# EAGLE library part SKRHAXE010 (library pimoroni)
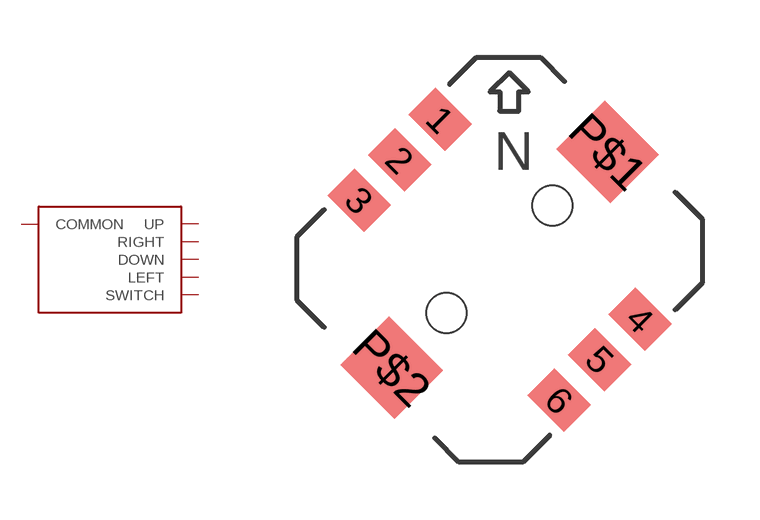
[diagram p43: symbol with the pads of SKRHAXE010; footprint SKRHAXE010]

Designator prefix -

## SKRHAXE010  [SKRHAXE010]
1  UP
2  SWITCH
3  LEFT
4  RIGHT
5  COMMON
6  DOWN

## Footprint SKRHAXE010 (pad centres in mm)
smd 1.35 x 1 rotated 315: 1 -1.306,3.781; 2 -2.366,2.72; 3 -3.427,1.659; 4 3.927,-1.452; 5 2.866,-2.513; 6 1.806,-3.573
smd 1.8 x 2 rotated 45: P$1 3.078,2.932; P$2 -2.578,-2.725
hole 1.05 at -1.143,-1.295
hole 1.05 at 1.626,1.524